# Altium footprint library CapTantalum.PcbLib: 46 footprints (part 3 of 3)
Each footprint in its own frame and in the unit in brackets; x right, y up, seen from the top. Pads: shape width x height; smd on the part's side, far side on the other; paste and mask are expansions set on the pad; w line width, h text height; cw(c..) or ccw(c..) is an arc to the next point about the centre after c.
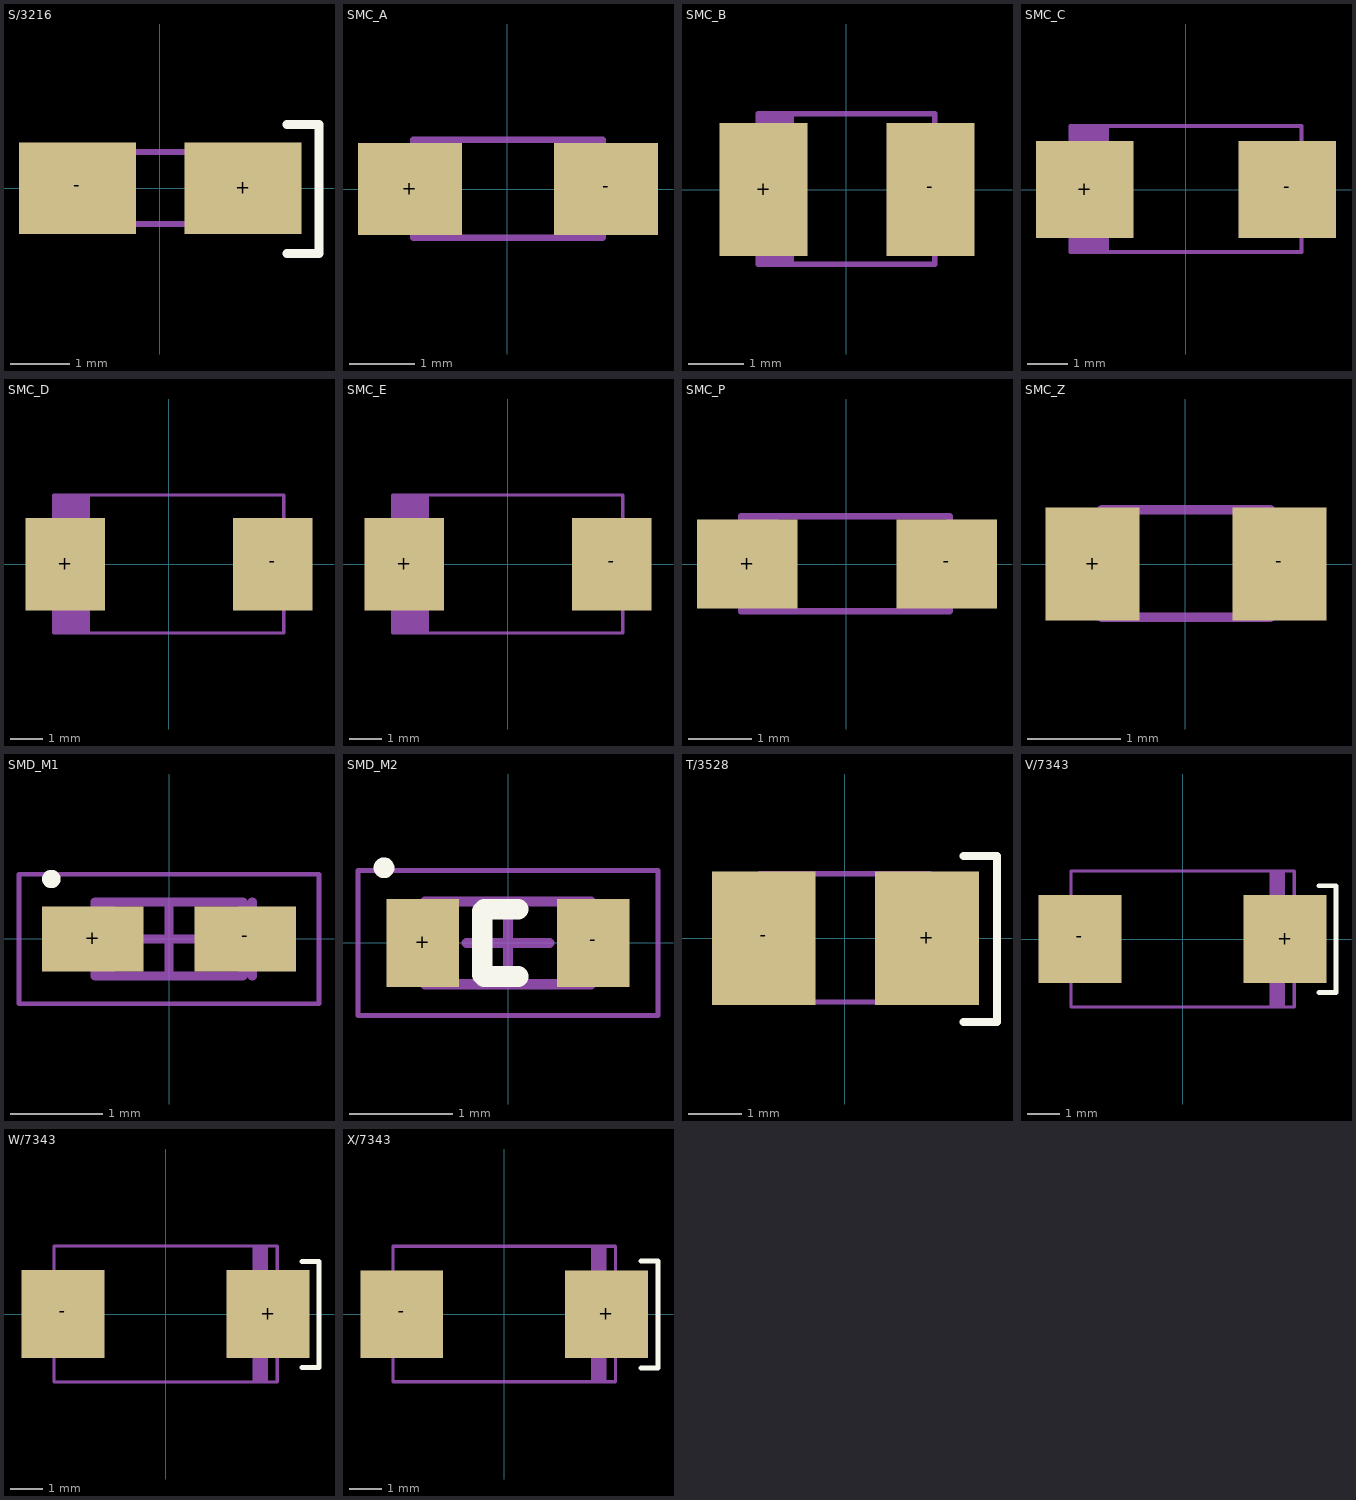
[diagram p2: the footprints below, top view; thin cyan lines are the x and y axes]

## S/3216 [mil]
pads (2):
  rect 77x60 smd: +(55,0) -(-54.13,0)
Top Overlay:
  lines w6: 84,-43 105,-43 105,42 84,42
Mechanical 16:
  rectangle: -62.99,-23.62 -58.07,24
  rectangle: 59,-23.62 63,24
  rectangle: 32,-24.61 44,25
  lines w4: -57.09,-23.62 58,-23.62 58,24 -57.09,24 -57.09,-23.62
3D body "TantalC_SizeS_EIA-3216.step": height 47.24, standoff 0, extent -66.92,-35.43 66.94,35.44

## SMC_A [mil]
pads (2):
  rect 63x56 smd: +(-59.06,0) -(60,0)
Mechanical 16:
  rectangle: -62.99,-23.62 -55.12,24
  region: 63,24 56,24 56,-23.62 63,-23.62
  rectangle: -57.09,-29.53 -31.5,30
  lines w4: -57.09,-29.53 58,-29.53 58,30 -57.09,30 -57.09,-29.53
3D body "CAPM-TANTA-YEL.stp": height 70.91, standoff 0, extent -68.93,-35 64.93,35.87

## SMC_B [mil]
pads (2):
  rect 63x95 smd: +(-59.06,0) -(60,0)
Mechanical 16:
  rectangle: -62.99,-53.15 -37.4,54
  region: 69,44 62,44 62,-43.31 69,-43.31
  rectangle: -68.9,-43.31 -61.02,44
  lines w4: -62.99,-53.15 -62.99,54 63,54 63,-53.15 -62.99,-53.15
3D body "CAPM-TANTB-YEL.stp": height 82.72, standoff 0, extent -71.83,-57 73.83,61.11

## SMC_C [mil]
pads (2):
  rect 95x95 smd: +(-98.43,0) -(99,0)
Mechanical 16:
  rectangle: -118.11,-43.31 -110.24,44
  region: 119,44 111,44 111,-43.31 119,-43.31
  rectangle: -112.2,-61.02 -74.8,62
  lines w4: -112.2,-61.02 113,-61.02 113,62 -112.2,62 -112.2,-61.02
3D body "CAPM-TANTC-YEL.stp": height 110.28, standoff 0, extent -125.05,-66.86 119.05,67

## SMC_D [mil]
pads (2):
  rect 95x111 smd: +(-124.02,0) -(125,0)
Mechanical 16:
  rectangle: -137.8,-82.68 -94.49,83
  region: 144,48 136,48 136,-47.24 144,-47.24
  rectangle: -143.7,-47.24 -135.83,48
  lines w4: -137.8,-82.68 -137.8,83 138,83 138,-82.68 -137.8,-82.68
3D body "CAPM-TANTD-YEL.stp": height 122.09, standoff 0, extent -146.64,-89 148.64,88.16

## SMC_E [mil]
pads (2):
  rect 95x111 smd: +(-124.02,0) -(125,0)
Mechanical 16:
  rectangle: -137.8,-82.68 -94.49,83
  region: 144,48 136,48 136,-47.24 144,-47.24
  rectangle: -143.7,-47.24 -135.83,48
  lines w4: -137.8,-82.68 -137.8,83 138,83 138,-82.68 -137.8,-82.68
3D body "User Library-AVX_E_CASE.STEP": height 165.35, standoff 0, extent -141.67,-89.6 149.7,85.6

## SMC_P [mil]
pads (2):
  rect 63x56 smd: +(-62.01,0) -(63,0)
Mechanical 16:
  rectangle: -64.96,-29.53 -42.32,29
  region: 71,18 67,18 67,-17.72 71,-17.72
  rectangle: -70.87,-17.72 -66.93,18
  lines w4: -65.94,-29.53 -65.94,30 65,30 65,-29.53 -65.94,-29.53
3D body "TantalC_SizeA_EIA-3216_Reflow.step": height 70.87, standoff 0, extent -61.93,-35.43 71.93,35.44

## SMC_Z [mil]
pads (2):
  rect 40x48 smd: +(-39.37,0) -(40,0)
Mechanical 16:
  rectangle: -39.37,-17.72 -35.43,18
  region: 40,18 36,18 36,-17.72 40,-17.72
  rectangle: -35.43,-23.62 -19.68,24
  lines w4: -35.43,-22.64 36,-22.64 36,23 -35.43,23 -35.43,-22.64
3D body "TantalC_SizeR_EIA-2012.step": height 47.24, standoff 0, extent -39.37,-25.59 39.37,25.59

## SMD_M1 [mm] "Molded Capacitor, 2-Leads, Body 1,60x0,80mm, IPC Medium Density"
height 0.9
pads (2):
  rect 1.1x0.7 smd: +(-0.825,0) -(0.825,0)
Top Overlay:
  circle w0.1: c-1.275,0.65 r0.05
Mechanical 13:
  rectangle: -0.8,-0.4 -0.585,0.4
  lines w0.1: 0.902,-0.4 0.902,0.4 ; -0.8,-0.4 -0.8,0.4 0.8,0.4 0.8,-0.4 -0.8,-0.4
Mechanical 15:
  lines w0.05: -1.625,-0.7 -1.625,0.7 1.625,0.7 1.625,-0.7 -1.625,-0.7
  lines w0.1: -0.4,0 0.4,0 ; 0,-0.4 0,0.4
3D body: height 0.9, standoff 0, extent -0.8,-0.4 0.8,0.4
3D body: height 0.9, standoff 0.9, extent -0.762,-0.406 -0.178,0.406
3D body: height 0.05, standoff 0, extent 0.762,-0.356 0.965,0.356
3D body: height 0.05, standoff 0, extent -0.965,-0.356 -0.762,0.356

## SMD_M2 [mm] "Chip Cpacitor 2-Leads, Body 1,60x0,80mm, IPC Medium Density"
height 0.9
pads (2):
  rect 0.7x0.85 smd: +(-0.825,0) -(0.825,0)
Top Overlay:
  circle w0.1: c-1.199,0.726 r0.05
  lines w0.2: -0.249,-0.305 -0.249,0.303 ; -0.229,-0.325 0.1,-0.325 ; -0.229,0.325 0.1,0.325
Mechanical 13:
  lines w0.1: -0.8,-0.4 -0.8,0.4 0.8,0.4 0.8,-0.4 -0.8,-0.4
Mechanical 15:
  lines w0.05: -1.45,-0.7 -1.45,0.7 1.45,0.7 1.45,-0.7 -1.45,-0.7
  lines w0.1: -0.4,0 0.4,0 ; 0,-0.4 0,0.4
3D body: height 0.9, standoff 0, extent -0.5,-0.4 0.5,0.4
3D body: height 0.9, standoff 0, extent -0.8,-0.4 -0.5,0.4
3D body: height 0.9, standoff 0, extent 0.5,-0.4 0.8,0.4
3D body: height 0.9, standoff 0.9, extent -0.508,-0.406 -0.33,0.406

## T/3528 [mil]
pads (2):
  rect 77x99 smd: +(61,0) -(-60.04,0)
Top Overlay:
  lines w6: 88,-62 113,-62 113,61 88,61
Mechanical 16:
  rectangle: 38,-48.23 50,49
  rectangle: 64,-23.62 69,24
  rectangle: -68.9,-23.62 -63.98,24
  lines w4: -62.99,-47.24 -62.99,48 63,48 63,-47.24 -62.99,-47.24
3D body "TantalC_SizeT_EIA-3528.step": height 47.24, standoff 0, extent -72.83,-59.05 72.84,59.06

## V/7343 [mil]
pads (2):
  rect 101x107 smd: +(125,0) -(-125,0)
Top Overlay:
  lines w6: 166,-65 187,-65 187,65 166,65
Mechanical 16:
  rectangle: 106,-83.66 125,84
  rectangle: 138,-47.24 144,48
  rectangle: -143.7,-47.24 -137.8,48
  lines w4: -135.83,-82.68 -135.83,83 136,83 136,-82.68 -135.83,-82.68
3D body "TantalC_SizeV_EIA-7343.step": height 78.74, standoff 0, extent -149.6,-90.55 149.61,90.55

## W/7343 [mil]
pads (2):
  rect 101x107 smd: +(125,0) -(-125,0)
Top Overlay:
  lines w6: 166,-65 187,-65 187,64 166,64
Mechanical 16:
  rectangle: 106,-83.66 125,84
  rectangle: 138,-47.24 144,48
  rectangle: -143.7,-47.24 -137.8,48
  lines w4: -135.83,-82.68 -135.83,83 136,83 136,-82.68 -135.83,-82.68
3D body "Tantalum_W_7343H15.step": height 59.06, standoff 0, extent -142.69,-84.64 144.7,84.65

## X/7343 [mil]
pads (2):
  rect 101x107 smd: +(125,0) -(-125,0)
Top Overlay:
  lines w6: 167,-66 188,-66 188,65 167,65
Mechanical 16:
  rectangle: -143.7,-47.24 -137.8,48
  rectangle: 138,-47.24 144,48
  rectangle: 106,-83.66 125,84
  lines w4: -135.83,-82.68 136,-82.68 136,83 -135.83,83 -135.83,-82.68
3D body "TantalC_SizeX_EIA-7343.step": height 169.29, standoff 0, extent -149.6,-90.55 149.61,90.56